# Altium footprint library VQFN-HR-10.PcbLib: 1 footprints
Each footprint in its own frame and in the unit in brackets; x right, y up, seen from the top. Pads: shape width x height; smd on the part's side, far side on the other; paste and mask are expansions set on the pad; w line width, h text height; cw(c..) or ccw(c..) is an arc to the next point about the centre after c.
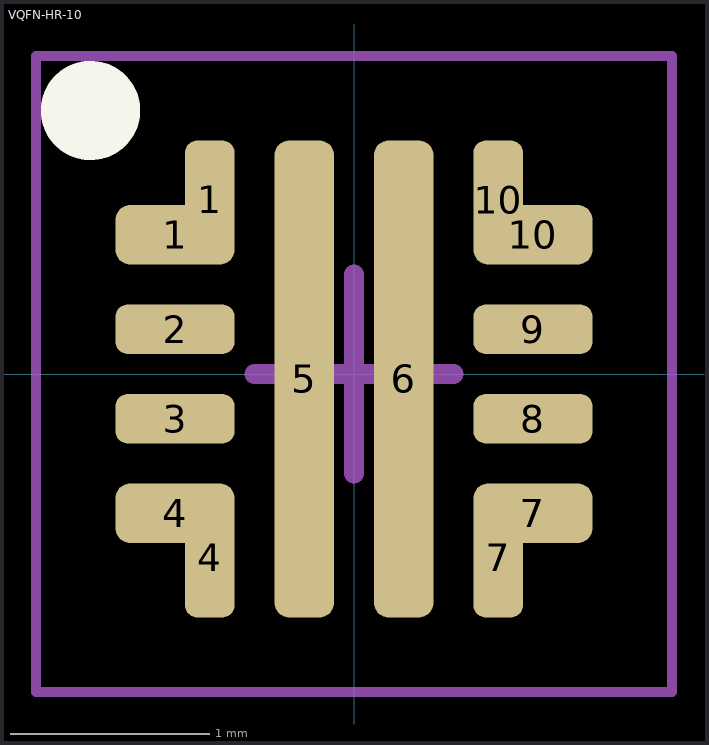
[diagram p0: the footprint, top view; thin cyan lines are the x and y axes]

## VQFN-HR-10 [mm]
height 1
pads (14):
  rrect50% 0.6x0.3 smd: 1(-0.9,0.7) 4(-0.9,-0.7) 7(0.9,-0.7) 10(0.9,0.7)
  rrect50% 0.25x0.6 smd: 1(-0.725,0.875) 4(-0.725,-0.925) 7(0.725,-0.925) 10(0.725,0.875)
  rrect50% 0.6x0.25 smd: 2(-0.9,0.225) 3(-0.9,-0.225) 8(0.9,-0.225) 9(0.9,0.225)
  rrect50% 0.3x2.4 smd: 5(-0.25,-0.025) 6(0.25,-0.025)
Top Overlay:
  circle w0.25: c-1.325,1.325 r0.125
Mechanical 15:
  lines w0.05: -1.6,-1.6 1.6,-1.6 1.6,1.6 -1.6,1.6 -1.6,-1.6
  lines w0.1: -0.5,0 0.5,0 ; 0,-0.5 0,0.5
3D body "VQFN-HR-10.step": height 1, standoff 0, extent -1.1,-1.1 1.1,1.1